# Altium footprint library Arturo_PCB.PcbLib: 41 footprints (part 1 of 3)
Each footprint in its own frame and in the unit in brackets; x right, y up, seen from the top. Pads: shape width x height; smd on the part's side, far side on the other; paste and mask are expansions set on the pad; w line width, h text height; cw(c..) or ccw(c..) is an arc to the next point about the centre after c.
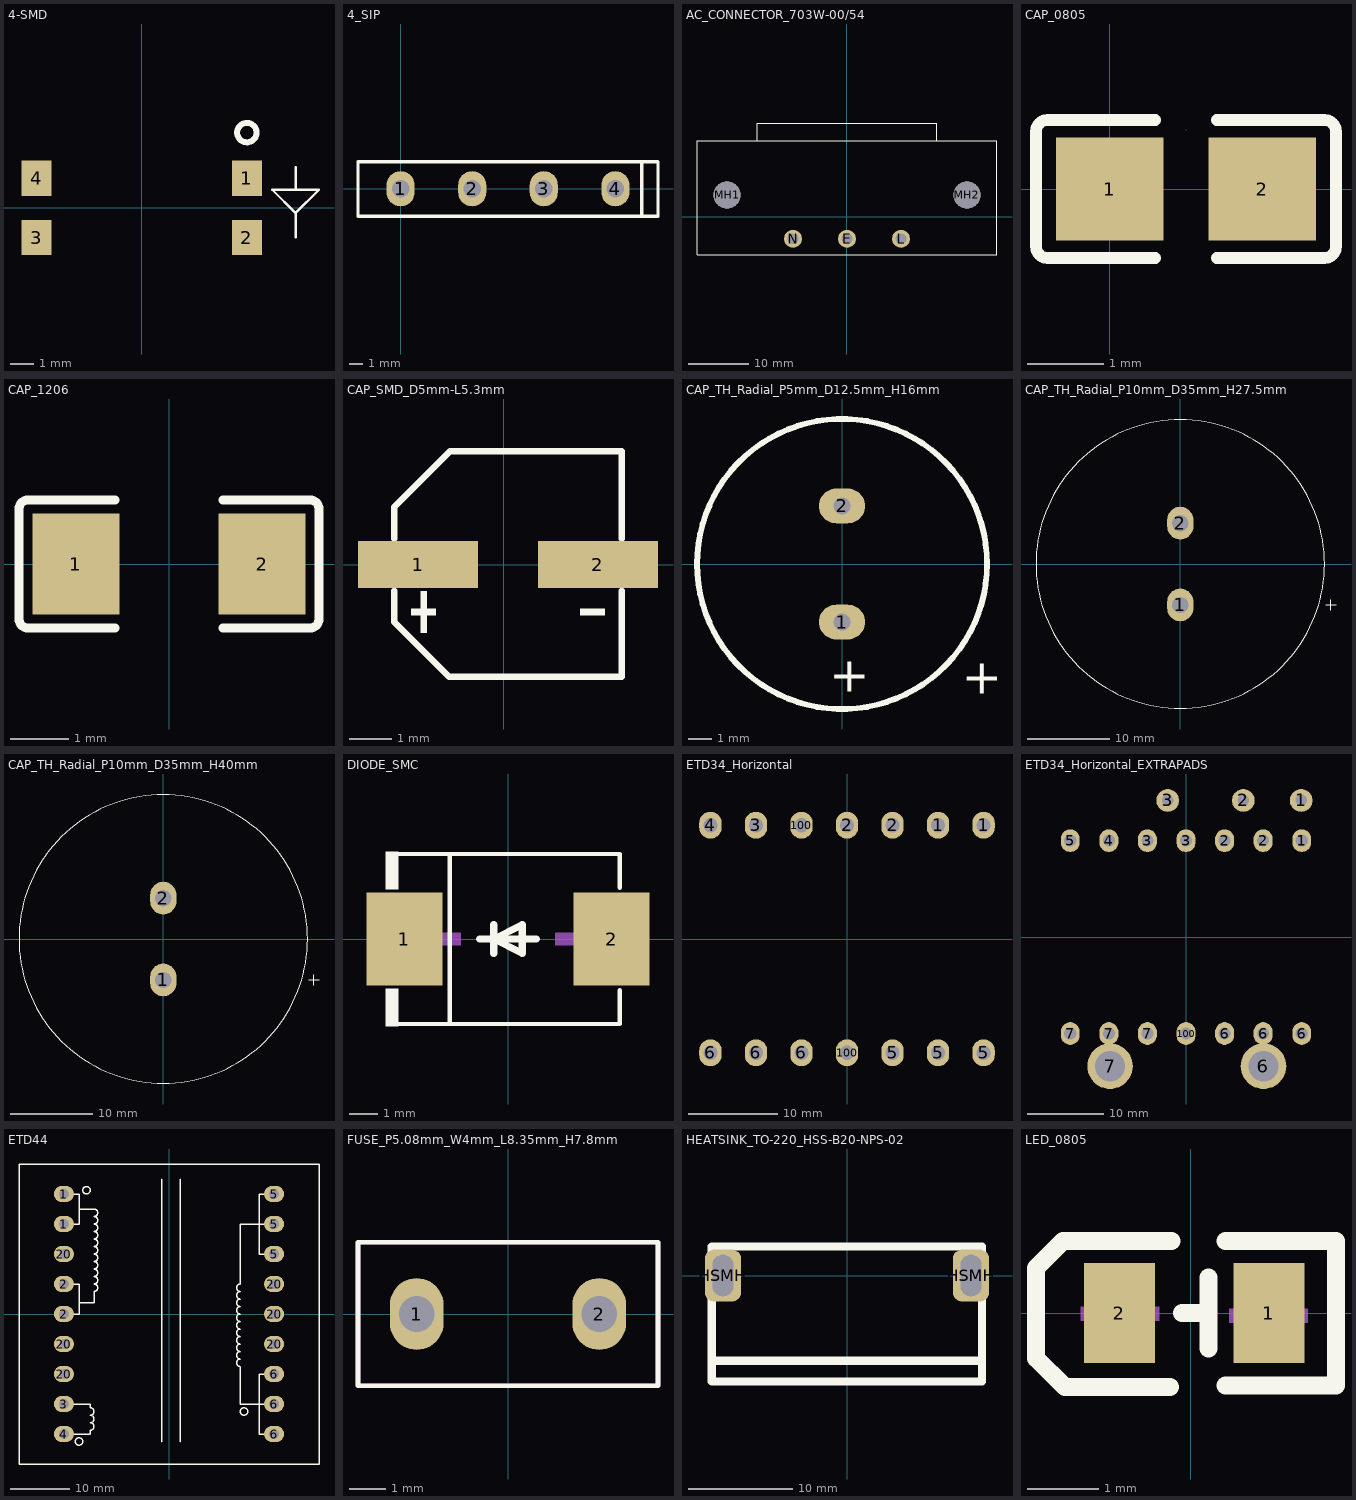
[diagram p0: the footprints below, top view; thin cyan lines are the x and y axes]

## 4-SMD [mm]
pads (4):
  rect 1.3x1.5 smd: 1(4.5,1.27) 2(4.5,-1.27) 3(-4.5,-1.27) 4(-4.5,1.27)
Top Overlay:
  circle w0.254: c4.495,3.224 r0.416
  lines w0.1: 6.581,-1.251 6.581,-0.223 ; 6.581,0.777 6.581,1.738 ; 6.581,-0.223 6.581,-0.223 ; 6.581,-0.223 7.581,0.777 5.581,0.777 6.581,-0.223
3D body "User Library-FOD817.STEP": height 4.61, standoff 0.01, extent -5.23,-2.55 5.23,2.55

## 4_SIP [mm]
pads (4):
  oval 2.08x2.6 hole 1.3: 1(0,0) 2(5.3,0) 3(10.6,0) 4(15.9,0)
Top Overlay:
  lines w0.254: 17.843,-2.021 17.843,1.979 ; -3.157,-2.021 -3.157,1.979 -3.133,2.003 19.052,2.003 19.056,2.006 19.056,-2.041 19.052,-2.044 -3.133,-2.044 -3.157,-2.021
3D body: height 19.1, standoff 8, extent -3.157,-2.021 19.094,2.017

## AC_CONNECTOR_703W-00/54 [mm]
pads (5):
  round 3 hole 1.8: E(0,-3.65) L(9,-3.65) N(-9,-3.65)
  round 4.5 hole 4.5: MH1(-20,3.65) MH2(20,3.65)
Top Overlay:
  lines w0.127: -15,12.65 -15,15.65 15,15.65 15,12.65 ; -15,12.65 15,12.65 ; -15,12.65 -25,12.65 -25,-6.35 25,-6.35 25,12.65 15,12.65
3D body "step_temp.STEP": height 28.21, standoff -3.49, extent -25,-9.1 25,15.5

## CAP_0805 [mm]
pads (2):
  rect 1.41x1.35 smd: 1(0,0) 2(2,0)
Top Overlay:
  lines w0.152: 0.599,-0.904 -0.811,-0.904 cw(c-0.811,-0.751) -0.964,-0.751 -0.964,0.751 cw(c-0.811,0.751) -0.811,0.904 0.599,0.904 ; 1.401,-0.904 2.811,-0.904 ccw(c2.811,-0.751) 2.964,-0.751 2.964,0.751 ccw(c2.811,0.751) 2.811,0.904 1.401,0.904
Top Paste:
  region: -0.675,-0.62 -0.675,0.66 -0.625,0.71 0.525,0.71 0.575,0.66 0.58,0.25 0.13,0.25 0.13,-0.2 0.57,-0.2 0.575,-0.62 0.525,-0.67 -0.625,-0.67
  region: 1.475,-0.62 1.475,-0.2 1.92,-0.2 1.92,0.25 1.48,0.25 1.475,0.66 1.525,0.71 2.675,0.71 2.725,0.66 2.725,-0.62 2.675,-0.67 1.525,-0.67
Mechanical 15:
  lines w0.003: 1,0.777 1,0.777

## CAP_1206 [mm]
pads (2):
  rect 1.485x1.728 smd: 1(-1.593,0) 2(1.593,0)
Top Overlay:
  lines w0.152: -0.926,-1.093 -2.411,-1.093 cw(c-2.411,-0.94) -2.564,-0.94 -2.564,0.94 cw(c-2.411,0.94) -2.411,1.093 -0.926,1.093 ; 0.926,-1.093 2.411,-1.093 ccw(c2.411,-0.94) 2.564,-0.94 2.564,0.94 ccw(c2.411,0.94) 2.411,1.093 0.926,1.093
Top Paste:
  region: -0.85,-0.764 -0.85,-0.394 -0.95,-0.294 -1.255,-0.294 -1.355,-0.194 -1.355,0.194 -1.255,0.294 -0.95,0.294 -0.85,0.394 -0.85,0.764 -0.95,0.864 -2.235,0.864 -2.335,0.764 -2.335,-0.764 -2.235,-0.864 -0.95,-0.864
  region: 0.85,-0.764 0.85,-0.394 0.95,-0.294 1.255,-0.294 1.355,-0.194 1.355,0.194 1.255,0.294 0.95,0.294 0.85,0.394 0.85,0.764 0.95,0.864 2.235,0.864 2.335,0.764 2.335,-0.764 2.235,-0.864 0.95,-0.864

## CAP_SMD_D5mm-L5.3mm [mm]
pads (2):
  rect 2.8x1.1 smd: 1(-2,0) 2(2.2,0)
Top Overlay:
  region: -1.94,-0.624 -1.94,-1.584 -1.796,-1.584 -1.796,-0.624
  region: -2.156,-1.032 -2.156,-1.176 -1.58,-1.176 -1.58,-1.032
  region: 2.356,-1.032 2.356,-1.176 1.78,-1.176 1.78,-1.032
  lines w0.152: -2.56,-0.607 -2.56,-1.331 -1.272,-2.619 2.749,-2.619 2.749,-0.607 ; -2.56,0.607 -2.56,1.341 -1.249,2.649 2.759,2.649 2.759,0.607
Mechanical 15:
  region: -1.94,0.48 -1.94,-0.48 -1.796,-0.48 -1.796,0.48
  region: -2.156,0.072 -2.156,-0.072 -1.58,-0.072 -1.58,0.072
  region: 2.356,0.072 2.356,-0.072 1.78,-0.072 1.78,0.072

## CAP_TH_Radial_P5mm_D12.5mm_H16mm [mm]
pads (2):
  oval 2x1.5 hole 0.75: 1(0,-2.5) 2(0,2.5)
Top Overlay:
  circle w0.254: c0,0 r6.25
  text "+" at 5.154,-5.6 h1.52
  text "+" at -0.546,-5.5 h1.52
3D body: height 16, standoff 0, extent -6.25,-6.25 6.25,6.25

## CAP_TH_Radial_P10mm_D35mm_H27.5mm [mm]
pads (2):
  oval 3.2x4 hole 2: 1(0,-5) 2(0,5)
Top Overlay:
  circle w0.152: c0,0.004 r17.628
  lines w0.152: 17.755,-5 19.025,-5 ; 18.39,-5.635 18.39,-4.365
3D body: height 27.5, standoff 0, extent -17.5,-17.5 17.5,17.5

## CAP_TH_Radial_P10mm_D35mm_H40mm [mm]
pads (2):
  oval 3.2x4 hole 2: 1(0,-5) 2(0,5)
Top Overlay:
  circle w0.152: c0,0.004 r17.628
  lines w0.152: 17.755,-5 19.025,-5 ; 18.39,-5.635 18.39,-4.365
3D body: height 40, standoff 0, extent -17.5,-17.5 17.5,17.5

## DIODE_SMC [mm]
pads (2):
  rect 2.7x3.3 smd: 1(-3.686,0) 2(3.686,0)
Top Overlay:
  region: -3.9,3.102 -3.9,1.772 -4.357,1.772 -4.357,3.102
  region: -3.9,-3.102 -3.9,-1.772 -4.357,-1.772 -4.357,-3.102
  lines w0.152: -3.976,-3.026 3.976,-3.026 3.976,-1.823 ; -3.976,3.026 3.976,3.026 3.976,1.823 ; -2.069,-3.026 -2.069,3.026
  lines w0.254: -1.016,0 1.016,0 ; -0.508,0.508 -0.508,-0.508 -0.508,0 ; -0.508,0 0.508,-0.508 0.508,0.508 -0.508,0
Mechanical 15:
  region: -3.457,-0.221 -3.457,0.221 -1.687,0.221 -1.687,-0.221
  region: 3.457,-0.221 3.457,0.221 1.687,0.221 1.687,-0.221
  region: 2.794,-1.475 2.794,1.475 2.351,1.475 2.351,-1.475

## ETD34_Horizontal [mm]
pads (14):
  oval 2.5x3 hole 1.6: 1(10.16,12.7) 1(15.24,12.7) 2(0,12.7) 2(5.08,12.7) 3(-10.16,12.7) 4(-15.24,12.7) 5(5.08,-12.7) 5(10.16,-12.7) 5(15.24,-12.7) 6(-15.24,-12.7) 6(-10.16,-12.7) 6(-5.08,-12.7) 100(-5.08,12.7) 100(0,-12.7)
3D body "c61036-a0103-b202_coil-former_etd34_sw.step": height 28.4, standoff -8.99, extent -19.8,-20.7 19.8,20.7

## ETD34_Horizontal_EXTRAPADS [mm]
pads (19):
  round 3 hole 1.5: 1(15.172,18) 2(7.543,18) 3(-2.406,18)
  oval 2.5x3 hole 1.6: 1(15.24,12.7) 2(5.08,12.7) 2(10.16,12.7) 3(-5.08,12.7) 3(0,12.7) 4(-10.16,12.7) 5(-15.24,12.7) 6(5.08,-12.7) 6(10.16,-12.7) 6(15.24,-12.7) 7(-15.24,-12.7) 7(-10.16,-12.7) 7(-5.08,-12.7) 100(0,-12.7)
  round 6 hole 4: 6(10.202,-17) 7(-10,-17)
3D body "c61036-a0103-b202_coil-former_etd34_sw.step": height 28.4, standoff -8.99, extent -19.8,-20.7 19.8,20.7

## ETD44 [mm]
pads (18):
  oval 3.4x2.72 hole 1.7: 1(-17.8,15.24) 1(-17.8,20.32) 2(-17.8,0) 2(-17.8,5.08) 3(-17.8,-15.24) 4(-17.8,-20.32) 5(17.8,10.16) 5(17.8,15.24) 5(17.8,20.32) 6(17.8,-20.32) 6(17.8,-15.24) 6(17.8,-10.16) 20(-17.8,-10.16) 20(-17.8,-5.08) 20(-17.8,10.16) 20(17.8,-5.08) 20(17.8,0) 20(17.8,5.08)
Top Overlay:
  circle w0.254: c12.7,-16.51 r0.635
  circle w0.254: c-15.24,-21.59 r0.635
  circle w0.254: c-13.97,20.955 r0.635
  lines w0.254: -17.8,-20.32 -15.24,-20.32 -13.335,-20.32 -13.335,-19.685 ccw(c-13.335,-19.05) -13.335,-18.415 ccw(c-13.335,-17.78) -13.335,-17.145 ccw(c-13.335,-16.51) -13.335,-15.875 -13.335,-15.24 -15.24,-15.24 -17.8,-15.24 ; -17.8,0 -15.24,0 -15.24,5.08 ; -17.78,5.08 -15.24,5.08 ; -17.78,15.24 -15.24,15.24 -15.24,17.78 ; -17.78,20.32 -15.24,20.32 -15.24,19.685 -15.24,17.78 ; -1.27,-21.59 -1.27,22.86 ; 1.905,-21.59 1.905,22.86 ; 17.78,-10.16 15.24,-10.16 ; 17.78,10.16 15.24,10.16 15.24,20.32 ; 17.8,-20.32 15.24,-20.32 15.24,-10.16 ; 17.8,-15.24 15.24,-15.24 ; 17.8,15.24 15.24,15.24 ; 17.8,20.32 15.24,20.32 ; -15.24,5.08 -15.24,1.905 -12.7,1.905 -12.7,3.81 ccw(c-12.7,4.445) -12.7,5.08 ccw(c-12.7,5.715) -12.7,6.35 ccw(c-12.7,6.985) -12.7,7.62 ccw(c-12.7,8.255) -12.7,8.89 ccw(c-12.7,9.525) -12.7,10.16 ccw(c-12.7,10.795) -12.7,11.43 ccw(c-12.7,12.065) -12.7,12.7 ccw(c-12.7,13.335) -12.7,13.97 ccw(c-12.7,14.605) -12.7,15.24 ccw(c-12.7,15.875) -12.7,16.51 ccw(c-12.7,17.145) -12.7,17.78 -15.24,17.78 ; 15.24,-15.24 12.065,-15.24 12.065,-8.89 cw(c12.065,-8.255) 12.065,-7.62 cw(c12.065,-6.985) 12.065,-6.35 cw(c12.065,-5.715) 12.065,-5.08 cw(c12.065,-4.445) 12.065,-3.81 cw(c12.065,-3.175) 12.065,-2.54 cw(c12.065,-1.905) 12.065,-1.27 cw(c12.065,-0.635) 12.065,0 cw(c12.065,0.635) 12.065,1.27 cw(c12.065,1.905) 12.065,2.54 cw(c12.065,3.175) 12.065,3.81 cw(c12.065,4.445) 12.065,5.08 12.065,15.24 15.24,15.24 ; 15.24,-15.24 15.24,-10.16 ; 15.24,15.24 15.24,20.32 ; -25.4,-25.4 25.4,-25.4 25.4,25.4 -25.4,25.4 -25.4,-25.4
3D body "B66366B1018T001_coil_former_etd44.stp": height 38.09, standoff -4.49, extent -25.5,-24.8 25.5,24.8

## FUSE_P5.08mm_W4mm_L8.35mm_H7.8mm [mm]
pads (2):
  oval 1.5x2 hole 1: 1(-2.54,0) 2(2.54,0)
Top Overlay:
  lines w0.127: -4.175,-2 -4.175,2 4.175,2 4.175,-2 -4.175,-2
Mechanical 13:
  lines w0.127: -4.175,-2 4.175,-2 4.175,2 -4.175,2 -4.175,-2
3D body: height 7.8, standoff 0, extent -4.2,-2 4.2,2

## HEATSINK_TO-220_HSS-B20-NPS-02 [mm]
pads (2):
  rrect50% 3.5x5 hole 2 slot 4 at 90 deg: HSMH(-11.933,0) HSMH(11.933,0)
Top Overlay:
  lines w0.8: -13.003,-8.199 12.997,-8.199 ; -13.003,-10.199 12.997,-10.199 12.997,2.801 -13.003,2.801 -13.003,-10.199
3D body "CUI_DEVICES_HSS-B20-NPS-02.step": height 29.98, standoff -5.07, extent -12.703,-10.199 12.697,2.501

## LED_0805 [mm]
pads (2):
  rect 1x1.4 smd: 1(1.101,0) 2(-1,0)
Top Overlay:
  lines w0.254: -0.294,-1.043 -1.767,-1.043 -2.173,-0.636 -2.173,0.634 -1.792,1.015 -0.268,1.015 ; -0.119,0 0.15,0 ; 0.25,-0.5 0.25,0.5 ; 0.494,-1.017 2.043,-1.017 2.043,1.015 0.494,1.015
Mechanical 15:
  region: -0.444,-0.109 -1.544,-0.109 -1.544,0.091 -0.444,0.091
  region: 0.545,0.06 1.645,0.06 1.645,-0.14 0.545,-0.14
  region: 0.991,-0.556 0.991,0.544 1.191,0.544 1.191,-0.556